# Altium schematic symbol library BMS_Master.SchLib: 1 symbol
Pins are listed as number, name and electrical type; pins without a type are passive.

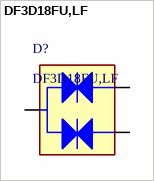
[diagram p0: symbol DF3D18FU,LF]

## DF3D18FU,LF
designator D?
ESD Suppressors / TVS Diodes ESD Protection Diode Bi-directional type; Manufacturer: Toshiba; Breakdown Voltage: 18.35V; Clamping Voltage: 33V; Max Breakdown Voltage: 20.5V; Min Breakdown Voltage: 16.2V; Number of Bidirectional Channels: 2; Peak Pulse Current: 2.5A; Peak Pulse Power: 80W; Peak Reverse Current: 100nA; Polarity: Bidirectional; Power Line Protection: No; Reverse Standoff Voltage: 12V; Supplier: DigiKey; Supplier Part Number: DF3D18FULFCT-ND; Manufacturer Part Number: DF3D18FU,LF; RoHS: Compliant; Category: TVS Diodes; Stock: 17327; Pricing: 1=0.38, 10=0.254, 100=0.172, 500=0.133, 1000=0.113 (USD); Contact Plating: Tin; Lifecycle Status: Production; Max Operating Temperature: 150°C; Mounting Technology: Surface Mount; Number of Elements: 2; Number of Terminals: 3; REACH SVHC: Yes; ComponentLink1URL: https://datasheet.octopart.com:443/DF3D18FU%2CLF-Toshiba-datasheet-181389782.pdf?src-supplier=IHS; ComponentLink1Description: https://datasheet.octopart.com:443/DF3D18FU%2CLF-Toshiba-datasheet-181389782.pdf?src-supplier=IHS; Supplier 1: Mouser; Supplier Part Number 1: 757-DF3D18FULF
footprint SOT23-3 (SOT23 Package)
pins: 1, 2, 3